# Altium schematic symbol library MioMicro.SchLib: 30 symbols
Pins are listed as number, name and electrical type; pins without a type are passive.

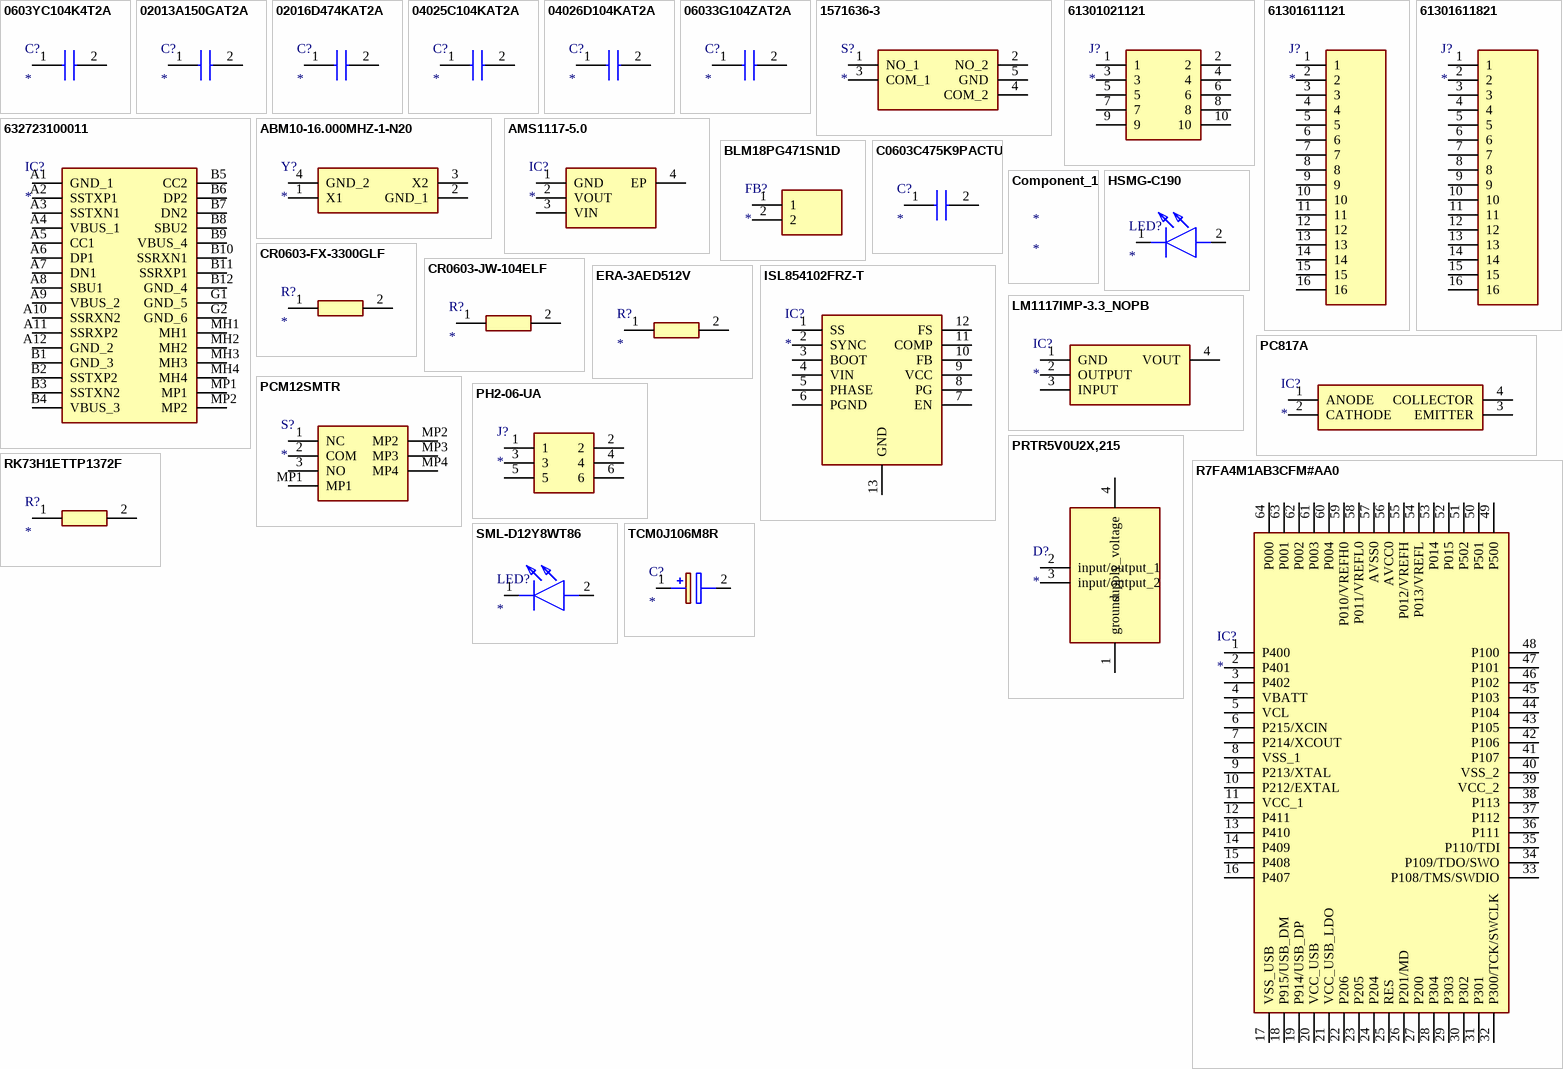
[diagram p0: symbols 0603YC104K4T2A to TCM0J106M8R]

## 0603YC104K4T2A
designator C?
Capacitor; Manufacturer_Name: AVX; Manufacturer_Part_Number: 0603YC104K4T2A; Datasheet Link: https://componentsearchengine.com/Datasheets/1/06031A100FAT2A.pdf; Height: 0.9mm; Mouser Part Number: 581-0603YC104K4; Mouser Price/Stock: https://www.mouser.co.uk/ProductDetail/AVX/0603YC104K4T2A/?qs=Cej1j9ztgjHj4I01NaBI3A%3D%3D; Arrow Part Number: 0603YC104K4T2A; Arrow Price/Stock: https://www.arrow.com/en/products/0603yc104k4t2a/avx
footprint CAPC1608X90N
pins: 1, 2

## 02013A150GAT2A
designator C?
Capacitor; Manufacturer_Name: AVX; Manufacturer_Part_Number: 02013A150GAT2A; Datasheet Link: http://www.mouser.com/catalog/supplier/library/pdf/AVXSurfaceMountCeramic.pdf; Height: 0.33mm; Mouser Part Number: 581-02013A150GAT2A; Mouser Price/Stock: https://www.mouser.co.uk/ProductDetail/AVX/02013A150GAT2A/?qs=o212fjDx7AHn1RFYvVFd2g%3D%3D; Arrow Part Number: 02013A150GAT2A; Arrow Price/Stock: https://www.arrow.com/en/products/02013a150gat2a/avx
footprint CAPC0603X33N
pins: 1, 2

## 02016D474KAT2A
designator C?
Capacitor; Manufacturer_Name: AVX; Manufacturer_Part_Number: 02016D474KAT2A; Datasheet Link: http://www.mouser.com/catalog/supplier/library/pdf/AVXSurfaceMountCeramic.pdf; Height: 0.33mm; Mouser Part Number: 581-02016D474KAT2A; Mouser Price/Stock: https://www.mouser.co.uk/ProductDetail/AVX/02016D474KAT2A?qs=a6Vv43ErYnwNI9YcsWUNpw%3D%3D
footprint CAPC0603X33N
pins: 1, 2

## 04025C104KAT2A
designator C?
Capacitor; Manufacturer_Name: AVX; Manufacturer_Part_Number: 04025C104KAT2A; Datasheet Link: http://www.mouser.com/catalog/supplier/library/pdf/AVXSurfaceMountCeramic.pdf; Height: 0.56mm; Mouser Part Number: 581-04025C104KAT2A; Mouser Price/Stock: https://www.mouser.co.uk/ProductDetail/AVX/04025C104KAT2A?qs=ZBeOGGPQgEFYcwOskjAIVQ%3D%3D; Arrow Part Number: 04025C104KAT2A; Arrow Price/Stock: https://www.arrow.com/en/products/04025c104kat2a/avx?region=nac
footprint CAPC1005X56N
pins: 1, 2

## 04026D104KAT2A
designator C?
Capacitor; Manufacturer_Name: AVX; Manufacturer_Part_Number: 04026D104KAT2A; Datasheet Link: http://www.mouser.com/catalog/supplier/library/pdf/AVXSurfaceMountCeramic.pdf; Height: 0.56mm; Mouser Part Number: 581-04026D104KAT2A; Mouser Price/Stock: https://www.mouser.co.uk/ProductDetail/AVX/04026D104KAT2A?qs=LLG2yGGJ5NhILwMziGI8Xg%3D%3D; Arrow Part Number: 04026D104KAT2A; Arrow Price/Stock: https://www.arrow.com/en/products/04026d104kat2a/avx?region=nac
footprint CAPC1005X56N
pins: 1, 2

## 06033G104ZAT2A
designator C?
Capacitor; Manufacturer_Name: AVX; Manufacturer_Part_Number: 06033G104ZAT2A; Datasheet Link: https://componentsearchengine.com/Datasheets/1/06031A100FAT2A.pdf; Height: 0.9mm; Mouser Part Number: 581-06033G104Z; Mouser Price/Stock: https://www.mouser.co.uk/ProductDetail/AVX/06033G104ZAT2A?qs=NXubJDmysXJMPmHfVo6Z%252BA%3D%3D; Arrow Part Number: 06033G104ZAT2A; Arrow Price/Stock: https://www.arrow.com/en/products/06033g104zat2a/avx?region=nac
footprint CAPC1608X90N
pins: 1, 2

## 1571636-3
designator S?
Switch; Manufacturer_Name: TE Connectivity; Manufacturer_Part_Number: 1571636-3; Datasheet Link: https://www.mouser.com/datasheet/2/418/NG_CD_1571636_C2-652439.pdf; Height: 2.5mm; Mouser Part Number: 506-1571636-3; Mouser Price/Stock: https://www.mouser.co.uk/ProductDetail/TE-Connectivity-Alcoswitch/1571636-3?qs=9qK3lZr%252Bi0Iiy0ZiPH8Cfg%3D%3D
footprint 15716363
pins: 1 NO_1, 2 NO_2, 3 COM_1, 4 COM_2, 5 GND

## 61301021121
designator J?
Connector; Manufacturer_Name: Wurth Elektronik; Manufacturer_Part_Number: 61301021121; Datasheet Link: https://www.mouser.com/datasheet/2/445/61301021121-1717849.pdf; Height: 8.69mm; Mouser Part Number: 710-61301021121; Mouser Price/Stock: https://www.mouser.co.uk/ProductDetail/Wurth-Elektronik/61301021121?qs=ZtY9WdtwX5612K9FdDCZCA%3D%3D
footprint HDRV10W64P254X254_2X5_1270X508X869P
pins: 1, 2, 3, 4, 5, 6, 7, 8, 9, 10

## 61301611121
designator J?
Connector; Manufacturer_Name: Wurth Elektronik; Manufacturer_Part_Number: 61301611121; Description: WURTH ELEKTRONIK - 61301611121 - Pin Header; Datasheet Link: https://www.we-online.com/catalog/datasheet/61301611121.pdf; Height: 8.74mm; Mouser Part Number: 710-61301611121; Mouser Price/Stock: https://www.mouser.co.uk/ProductDetail/Wurth-Elektronik/61301611121?qs=PhR8RmCirEYq%2F9PEO1%2F%252B%252Bg%3D%3D
footprint HDRV16W79P0X254_1X16_4064X254X874P
pins: 1, 2, 3, 4, 5, 6, 7, 8, 9, 10, 11, 12, 13, 14, 15, 16

## 61301611821
designator J?
Connector; Manufacturer_Name: Wurth Elektronik; Manufacturer_Part_Number: 61301611821; Datasheet Link: https://www.we-online.com/catalog/datasheet/61301611821.pdf; Height: 8.65mm; Mouser Part Number: 710-61301611821; Mouser Price/Stock: https://www.mouser.co.uk/ProductDetail/Wurth-Elektronik/61301611821?qs=xZ%2FP%252Ba9zWqYIxo6RU%252B1Wuw%3D%3D
footprint RHDR16W82P0X254_1X16_4114X250X865P (Footprint not found)
pins: 1, 2, 3, 4, 5, 6, 7, 8, 9, 10, 11, 12, 13, 14, 15, 16

## 632723100011
designator IC?
Integrated Circuit; Manufacturer_Name: Wurth Elektronik; Manufacturer_Part_Number: 632723100011; Datasheet Link: https://componentsearchengine.com/Datasheets/1/632723100011.pdf; Height: 3.11mm; Mouser Part Number: 710-632723100011; Mouser Price/Stock: https://www.mouser.co.uk/ProductDetail/Wurth-Elektronik/632723100011?qs=NK6InXoXhq4o62C9ULXLjQ%3D%3D
footprint 632723100011
pins: A1 GND_1, A2 SSTXP1, A3 SSTXN1, A4 VBUS_1, A5 CC1, A6 DP1, A7 DN1, A8 SBU1, A9 VBUS_2, A10 SSRXN2, A11 SSRXP2, A12 GND_2, B1 GND_3, B2 SSTXP2, B3 SSTXN2, B4 VBUS_3, B5 CC2, B6 DP2, B7 DN2, B8 SBU2, B9 VBUS_4, B10 SSRXN1, B11 SSRXP1, B12 GND_4, G1 GND_5, G2 GND_6, MH1, MH2, MH3, MH4, MP1, MP2

## ABM10-16.000MHZ-1-N20
designator Y?
Crystal or Oscillator; Manufacturer_Name: ABRACON; Manufacturer_Part_Number: ABM10-16.000MHZ-1-N20; Datasheet Link: https://abracon.com/Resonators/ABM10.pdf; Height: 0.7mm
footprint ABM10
pins: 1 X1, 2 GND_1, 3 X2, 4 GND_2

## AMS1117-5.0
designator IC?
Integrated Circuit; Manufacturer_Name: Shikues; Manufacturer_Part_Number: AMS1117-5.0; Datasheet Link: https://datasheet.lcsc.com/szlcsc/SK-AMS1117-5-0_C165483.pdf; Height: 1.8mm
footprint SOT290P700X180-4N
pins: 1 GND, 2 VOUT, 3 VIN, 4 EP

## BLM18PG471SN1D
designator FB?
Ferrite Bead; Manufacturer_Name: Murata Electronics; Manufacturer_Part_Number: BLM18PG471SN1D; Datasheet Link: http://www.murata.com/~/media/webrenewal/support/library/catalog/products/emc/emifil/c31e.ashx?la=en-gb; Height: 0.95mm; Mouser Part Number: 81-BLM18PG471SN1D; Mouser Price/Stock: https://www.mouser.co.uk/ProductDetail/Murata-Electronics/BLM18PG471SN1D?qs=EYzdjubb4S%2FN1Ip39GrHyg%3D%3D; Arrow Part Number: BLM18PG471SN1D; Arrow Price/Stock: https://www.arrow.com/en/products/blm18pg471sn1d/murata-manufacturing?region=nac
footprint BLM18SP221SN1B
pins: 1, 2

## C0603C475K9PACTU
designator C?
Capacitor; Manufacturer_Name: KEMET; Manufacturer_Part_Number: C0603C475K9PACTU; Datasheet Link: https://content.kemet.com/datasheets/KEM_C1006_X5R_SMD.pdf; Height: 0.87mm; Mouser Part Number: 80-C0603C475K9P; Mouser Price/Stock: https://www.mouser.co.uk/ProductDetail/KEMET/C0603C475K9PACTU?qs=UdQET6xYxVBhr%252BaRHVEWxA%3D%3D; Arrow Part Number: C0603C475K9PACTU; Arrow Price/Stock: https://www.arrow.com/en/products/c0603c475k9pactu/kemet-corporation?region=nac
footprint C0603
pins: 1, 2

## Component_1
designator *

## CR0603-FX-3300GLF
designator R?
Resistor; Manufacturer_Name: Bourns; Manufacturer_Part_Number: CR0603-FX-3300GLF; Datasheet Link: https://www.bourns.com/pdfs/chpreztr.pdf; Height: 0.55mm; Mouser Part Number: 652-CR0603-FX3300GLF; Mouser Price/Stock: https://www.mouser.com/Search/Refine.aspx?Keyword=652-CR0603-FX3300GLF; Arrow Part Number: CR0603-FX-3300GLF; Arrow Price/Stock: https://www.arrow.com/en/products/cr0603-fx-3300glf/bourns
footprint RESC1608X55N
pins: 1, 2

## CR0603-JW-104ELF
designator R?
Resistor; Manufacturer_Name: Bourns; Manufacturer_Part_Number: CR0603-JW-104ELF; Datasheet Link: https://www.bourns.com/pdfs/chpreztr.pdf; Height: 0.55mm; Mouser Part Number: 652-CR0603-JW-104ELF; Mouser Price/Stock: https://www.mouser.co.uk/ProductDetail/Bourns/CR0603-JW-104ELF?qs=wOX%252BDVkMoZSK2gq9cFrtRg%3D%3D; Arrow Part Number: CR0603-JW-104ELF; Arrow Price/Stock: https://www.arrow.com/en/products/cr0603-jw-104elf/bourns?region=europe
footprint RESC1608X55N
pins: 1, 2

## ERA-3AED512V
designator R?
Resistor; Manufacturer_Name: Panasonic; Manufacturer_Part_Number: ERA-3AED512V; Datasheet Link: https://industrial.panasonic.com/cdbs/www-data/pdf/RDM0000/AOA0000C307.pdf; Height: 0.55mm; Mouser Part Number: 667-ERA-3AED512V; Mouser Price/Stock: https://www.mouser.co.uk/ProductDetail/Panasonic/ERA-3AED512V?qs=SWVmE3OSrOnwfhRAKpyP%252Bg%3D%3D; Arrow Part Number: ERA-3AED512V; Arrow Price/Stock: https://www.arrow.com/en/products/era3aed512v/panasonic?region=nac
footprint ERA3AEB101V
pins: 1, 2

## HSMG-C190
designator LED?
LED; Manufacturer_Name: Avago Technologies; Manufacturer_Part_Number: HSMG-C190; Datasheet Link: https://docs.broadcom.com/docs/AV02-0551EN; Height: 0.9mm; Mouser Part Number: 630-HSMG-C190; Mouser Price/Stock: https://www.mouser.co.uk/ProductDetail/Broadcom-Avago/HSMG-C190?qs=YDL0qNrpDT605sxOaps8VQ%3D%3D
footprint LEDC1608X90N
pins: 1 K, 2 A

## ISL854102FRZ-T
designator IC?
Integrated Circuit; Manufacturer_Name: Renesas Electronics; Manufacturer_Part_Number: ISL854102FRZ-T; Datasheet Link: https://www.renesas.com/en-us/www/doc/datasheet/isl854102.pdf; Height: 1mm; Mouser Part Number: 968-ISL854102FRZ-T; Mouser Price/Stock: https://www.mouser.co.uk/ProductDetail/Renesas-Intersil/ISL854102FRZ-T?qs=UgE%2F0m3bTsYBYpYtggCPrQ%3D%3D; Arrow Part Number: ISL854102FRZ-T; Arrow Price/Stock: https://www.arrow.com/en/products/isl854102frz-t/intersil
footprint SON50P300X400X100-13N-D
pins: 1 SS, 2 SYNC, 3 BOOT, 4 VIN, 5 PHASE, 6 PGND, 7 EN, 8 PG, 9 VCC, 10 FB, 11 COMP, 12 FS, 13 GND

## LM1117IMP-3.3_NOPB
designator IC?
Integrated Circuit; Manufacturer_Name: Texas Instruments; Manufacturer_Part_Number: LM1117IMP-3.3/NOPB; Datasheet Link: https://www.ti.com/lit/ds/symlink/lm1117.pdf?ts=1607578196475&ref_url=https%253A%252F%252Fwww.google.com%252F; Height: 1.8mm; Mouser Part Number: 926-LM1117IMP3.3NOPB; Mouser Price/Stock: https://www.mouser.co.uk/ProductDetail/Texas-Instruments/LM1117IMP-3.3-NOPB?qs=X1J7HmVL2ZFbpN1TgOsjYQ%3D%3D; Arrow Part Number: LM1117IMP-3.3/NOPB; Arrow Price/Stock: https://www.arrow.com/en/products/lm1117imp-3.3nopb/texas-instruments?region=nac
footprint SOT230P700X180-4N
pins: 1 GND, 2 OUTPUT, 3 INPUT, 4 VOUT

## PC817A
designator IC?
Integrated Circuit; Manufacturer_Name: Sharp Microelectronics; Manufacturer_Part_Number: PC817A; Datasheet Link: https://pdf1.alldatasheet.com/datasheet-pdf/view/43370/SHARP/PC817A.html; Height: 4.5mm
footprint DIP762W60P254L458H450Q4N
pins: 1 ANODE, 2 CATHODE, 3 EMITTER, 4 COLLECTOR

## PCM12SMTR
designator S?
Switch; Manufacturer_Name: C & K COMPONENTS; Manufacturer_Part_Number: PCM12SMTR; Datasheet Link: https://www.ckswitches.com/media/1424/pcm.pdf; Height: 1.4mm; Mouser Part Number: 611-PCM12SMTR; Mouser Price/Stock: https://www.mouser.co.uk/ProductDetail/CK/PCM12SMTR?qs=mfFuHy8STfL3qrPSfCHA7w%3D%3D; Arrow Part Number: PCM12SMTR; Arrow Price/Stock: https://www.arrow.com/en/products/pcm12smtr/ck?region=nac
footprint PCM12SMTR
pins: 1 NC, 2 COM, 3 NO, MP1, MP2, MP3, MP4

## PH2-06-UA
designator J?
Connector; Manufacturer_Name: Adam Tech; Manufacturer_Part_Number: PH2-06-UA; Datasheet Link: https://datasheet.datasheetarchive.com/originals/distributors/Datasheets_SAMA/c63e3fe101e7b6e3957e7ad4a1a98367.pdf; Height: 9.008mm; Arrow Part Number: PH2-06-UA; Arrow Price/Stock: https://www.arrow.com/en/products/ph2-06-ua/adam-tech?region=nac
footprint HDRV6W64P254_2X3_762X500X901P
pins: 1, 2, 3, 4, 5, 6

## PRTR5V0U2X,215
designator D?
Diode; Manufacturer_Name: Nexperia; Manufacturer_Part_Number: PRTR5V0U2X,215; Datasheet Link: https://assets.nexperia.com/documents/data-sheet/PRTR5V0U2X.pdf; Height: 1.1mm; Mouser Part Number: 771-PRTR5V0U2X-T/R; Mouser Price/Stock: https://www.mouser.co.uk/ProductDetail/Nexperia/PRTR5V0U2X215?qs=LOCUfHb8d9sDkgY4cRj8Lw%3D%3D; Arrow Part Number: PRTR5V0U2X,215; Arrow Price/Stock: https://www.arrow.com/en/products/prtr5v0u2x215/nexperia?region=europe
footprint PRTR5V0U2X
pins: 1 ground, 2 input/output_1, 3 input/output_2, 4 supply_voltage

## R7FA4M1AB3CFM#AA0
designator IC?
Integrated Circuit; Manufacturer_Name: Renesas Electronics; Manufacturer_Part_Number: R7FA4M1AB3CFM#AA0; Datasheet Link: https://www.renesas.com/document/dst/renesas-ra4m1-group-datasheet?language=en&r=1054146; Height: 1.7mm; Mouser Part Number: 968-7FA4M1AB3CFM#AA0; Mouser Price/Stock: https://www.mouser.co.uk/ProductDetail/Renesas-Electronics/R7FA4M1AB3CFMAA0?qs=d0WKAl%252BL4KbrKuAsyurXHw%3D%3D
footprint QFP50P1200X1200X170-64N
pins: 1 P400, 2 P401, 3 P402, 4 VBATT, 5 VCL, 6 P215/XCIN, 7 P214/XCOUT, 8 VSS_1, 9 P213/XTAL, 10 P212/EXTAL, 11 VCC_1, 12 P411, 13 P410, 14 P409, 15 P408, 16 P407, 17 VSS_USB, 18 P915/USB_DM, 19 P914/USB_DP, 20 VCC_USB, 21 VCC_USB_LDO, 22 P206, 23 P205, 24 P204, 25 RES, 26 P201/MD, 27 P200, 28 P304, 29 P303, 30 P302, 31 P301, 32 P300/TCK/SWCLK, 33 P108/TMS/SWDIO, 34 P109/TDO/SWO, 35 P110/TDI, 36 P111, 37 P112, 38 P113, 39 VCC_2, 40 VSS_2, 41 P107, 42 P106, 43 P105, 44 P104, 45 P103, 46 P102, 47 P101, 48 P100, 49 P500, 50 P501, 51 P502, 52 P015, 53 P014, 54 P013/VREFL, 55 P012/VREFH, 56 AVCC0, 57 AVSS0, 58 P011/VREFL0, 59 P010/VREFH0, 60 P004, 61 P003, 62 P002, 63 P001, 64 P000

## RK73H1ETTP1372F
designator R?
Resistor; Manufacturer_Name: KOA Speer; Manufacturer_Part_Number: RK73H1ETTP1372F; Datasheet Link: http://www.koaspeer.com/catimages/Products/RK73-RT/RK73-RT.pdf; Height: 0.4mm; Mouser Part Number: 660-RK73H1ETTP1372F; Mouser Price/Stock: https://www.mouser.co.uk/ProductDetail/KOA-Speer/RK73H1ETTP1372F?qs=5lBKR3i2fIPHUeKlxjMAIA%3D%3D
footprint RESC1005X40N
pins: 1, 2

## SML-D12Y8WT86
designator LED?
LED; Manufacturer_Name: ROHM Semiconductor; Manufacturer_Part_Number: SML-D12Y8WT86; Datasheet Link: https://datasheet.datasheetarchive.com/originals/distributors/Datasheets_SAMA/f235664866caa647598714bb71411137.pdf; Height: 1.5mm; Mouser Part Number: 755-SML-D12Y8WT86; Mouser Price/Stock: https://www.mouser.co.uk/ProductDetail/ROHM-Semiconductor/SML-D12Y8WT86?qs=4kLU8WoGk0uSsIIn7EVV1A%3D%3D; Arrow Part Number: SML-D12Y8WT86; Arrow Price/Stock: https://www.arrow.com/en/products/sml-d12y8wt86/rohm-semiconductor
footprint LEDM1620X150N
pins: 1 K, 2 A

## TCM0J106M8R
designator C?
Capacitor Polarised; Manufacturer_Name: ROHM Semiconductor; Manufacturer_Part_Number: TCM0J106M8R; Datasheet Link: https://datasheet.datasheetarchive.com/originals/distributors/Datasheets_SAMA/255248ae09371697a9bedad935b0557d.pdf; Height: 0.9mm; Mouser Part Number: 755-TCM0J106M8R; Mouser Price/Stock: https://www.mouser.com/Search/Refine.aspx?Keyword=755-TCM0J106M8R; Arrow Part Number: TCM0J106M8R; Arrow Price/Stock: https://www.arrow.com/en/products/tcm0j106m8r/rohm-semiconductor
footprint CAPPM168X90N
pins: 1 +, 2 -